# EAGLE library part ATTINY85 (library strobe)
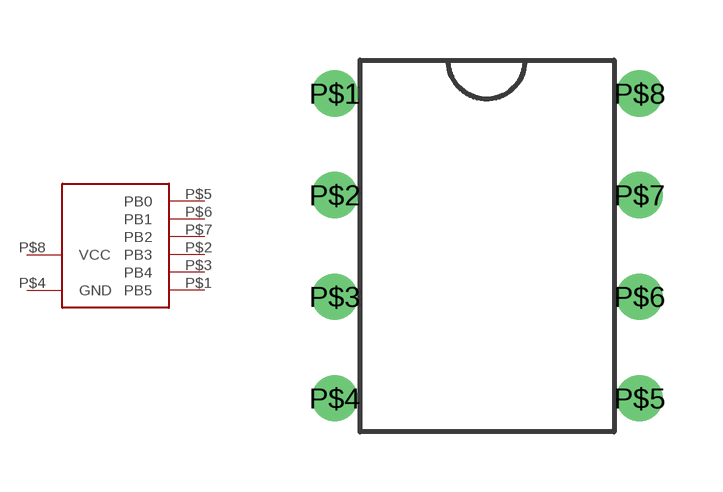
[diagram p0: symbol with the pads of 8P3; footprint 8P3]

Designator prefix -

## ATTINY85  [8P3]
P$1  PB5
P$2  PB3
P$3  PB4
P$4  GND
P$5  PB0
P$6  PB1
P$7  PB2
P$8  VCC

## Footprint 8P3 (pad centres in mm)
drill 0.65: P$1 -3.81,3.81; P$2 -3.81,1.27; P$3 -3.81,-1.27; P$4 -3.81,-3.81; P$5 3.81,-3.81; P$6 3.81,-1.27; P$7 3.81,1.27; P$8 3.81,3.81